# Altium schematic symbol library Connector-Library.SchLib: 14 symbols (part 2 of 2)
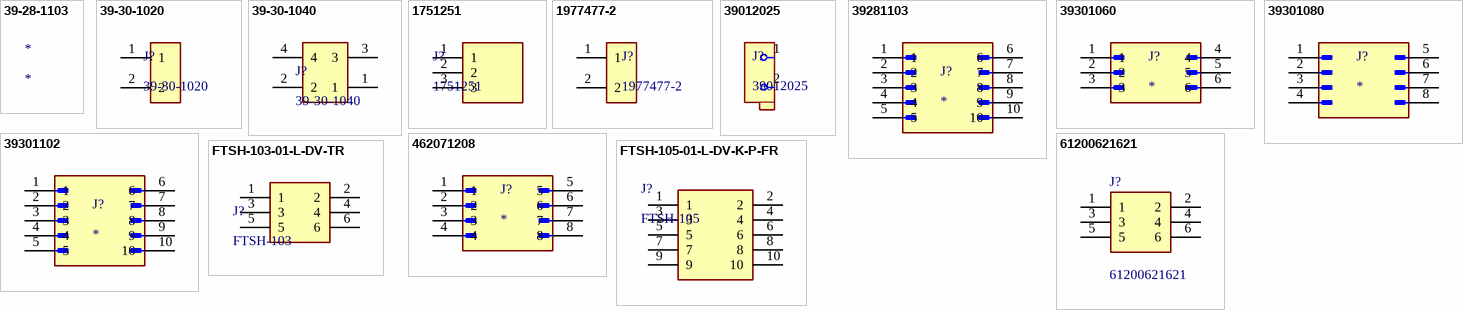
[diagram p1: symbols 39-28-1103 to FTSH-105-01-L-DV-K-P-FR]

## 39301080
designator J?
Connector Wire to Board Header 8 Position 4.2mm Solder Right Angle Thru-Hole Tray; Manufacturer Lifecycle Status: ACTIVE; MF: Molex; Approvals: CSA, TUV, UL; Connector Type: Power, Rectangular; Contact Resistance: 10mΩ; Current Rating: 8A; Gender: Male; Glow Wire Compliant: Non-compliant; Insulation Resistance: 1GΩ; Max Current Rating: 5A; Max Voltage Rating (DC): 250V; Number of Circuits: 6; Number of Contacts: 8; Plating Thickness: 2.54µm; Voltage Rating: 600V; SnapEDA_Link: https://www.snapeda.com/parts/39-30-1080/Molex/view-part/?ref=snap; Package: None; Value: *; MP: 39-30-1080; Check_prices: https://www.snapeda.com/parts/39-30-1080/Molex/view-part/?ref=eda; Supplier: RS; Supplier Part Number: 5109865P; Manufacturer: Molex; Manufacturer Part Number: 39-30-1080; RoHS: Compliant; Category: Headers and Wire Housings; Stock: 1025; China RoHS: Compliant; Color: Natural; Contact Gender: Male; Contact Material: Brass; Contact Plating: Tin; Country of Origin: US; Depth: 5.57mm; ELV: Compliant; Flammability Rating: UL94 V-2; Halogen Free: Low Halogen; Height: 9.9mm; Housing Material: Nylon; Lead Free: Lead Free; Lead Pitch: 4.2mm; Length: 15.65mm; Lifecycle Status: Production; Material: Nylon; Max Operating Temperature: 105°C; Min Operating Temperature: -40°C; Mounting Technology: PCB, Through Hole; Pins: 8; Number of Poles: 8; Number of Positions: 8; Number of Rows: 2; Orientation: Right Angle; Packaging: Bulk; Pitch: 4.2mm; Radiation Hardening: No; REACH SVHC: Yes; Row Spacing: 4.2mm; Schedule B: 8536694040, 8536694040|8536694040|8536694040|8536694040|8536694040; Termination: Solder; Voltage Rating (AC): 600V; Voltage Rating (DC): 600V; Working Voltage: 600V; ComponentLink1URL: https://datasheet.octopart.com:443/39-30-1080-Molex-datasheet-120074128.pdf?src-supplier=IHS; ComponentLink1Description: https://datasheet.octopart.com:443/39-30-1080-Molex-datasheet-120074128.pdf?src-supplier=IHS; ComponentLink2URL: https://datasheet.octopart.com:443/39-30-1080-Molex-datasheet-13785313.pdf?src-supplier=Sager+Electronics; ComponentLink2Description: https://datasheet.octopart.com:443/39-30-1080-Molex-datasheet-13785313.pdf?src-supplier=Sager+Electronics; ComponentLink3URL: https://sigma.octopart.com:443/15644801/technical_drawing/Molex-39-30-1080.pdf?src-supplier=Molex; ComponentLink3Description: https://sigma.octopart.com:443/15644801/technical_drawing/Molex-39-30-1080.pdf?src-supplier=Molex; ComponentLink4URL: https://datasheet.octopart.com:443/39-30-1080-Molex-datasheet-12555477.pdf?src-supplier=Molex; ComponentLink4Description: https://datasheet.octopart.com:443/39-30-1080-Molex-datasheet-12555477.pdf?src-supplier=Molex; ComponentLink5URL: https://datasheet.octopart.com:443/039301080-Molex-datasheet-8338717.pdf?src-supplier=Future+Electronics; ComponentLink5Description: https://datasheet.octopart.com:443/039301080-Molex-datasheet-8338717.pdf?src-supplier=Future+Electronics; ComponentLink6URL: https://datasheet.octopart.com:443/39301080-Molex-datasheet-137316104.pdf?src-supplier=Future+Electronics; ComponentLink6Description: https://datasheet.octopart.com:443/39301080-Molex-datasheet-137316104.pdf?src-supplier=Future+Electronics; ComponentLink7URL: https://datasheet.octopart.com:443/39-30-1080-Molex-datasheet-154749340.pdf?src-supplier=Master+Electronics; ComponentLink7Description: https://datasheet.octopart.com:443/39-30-1080-Molex-datasheet-154749340.pdf?src-supplier=Master+Electronics; ComponentLink8URL: https://datasheet.octopart.com:443/39-30-1080-Molex-datasheet-101582412.pdf?src-supplier=Farnell; ComponentLink8Description: https://datasheet.octopart.com:443/39-30-1080-Molex-datasheet-101582412.pdf?src-supplier=Farnell; ComponentLink9URL: https://datasheet.octopart.com:443/39-30-1080-Molex-datasheet-15687899.pdf?src-supplier=Farnell; ComponentLink9Description: https://datasheet.octopart.com:443/39-30-1080-Molex-datasheet-15687899.pdf?src-supplier=Farnell; ComponentLink10URL: https://datasheet.octopart.com:443/39-30-1080-Molex-datasheet-13550729.pdf?src-supplier=Farnell; ComponentLink10Description: https://datasheet.octopart.com:443/39-30-1080-Molex-datasheet-13550729.pdf?src-supplier=Farnell; ComponentLink11URL: https://datasheet.octopart.com:443/39-30-1080-Molex-datasheet-34223370.pdf?src-supplier=Electro+Sonic; ComponentLink11Description: https://datasheet.octopart.com:443/39-30-1080-Molex-datasheet-34223370.pdf?src-supplier=Electro+Sonic; ComponentLink12URL: https://datasheet.octopart.com:443/39-30-1080-Molex-datasheet-62104202.pdf?src-supplier=Electro+Sonic; ComponentLink12Description: https://datasheet.octopart.com:443/39-30-1080-Molex-datasheet-62104202.pdf?src-supplier=Electro+Sonic; ComponentLink13URL: https://datasheet.octopart.com:443/39-30-1080-Molex-datasheet-23709674.pdf?src-supplier=Electro+Sonic; ComponentLink13Description: https://datasheet.octopart.com:443/39-30-1080-Molex-datasheet-23709674.pdf?src-supplier=Electro+Sonic; ComponentLink14URL: https://datasheet.octopart.com:443/39-30-1080-Molex-datasheet-140183179.pdf?src-supplier=RS+(Formerly+Allied+Electronics); ComponentLink14Description: https://datasheet.octopart.com:443/39-30-1080-Molex-datasheet-140183179.pdf?src-supplier=RS+(Formerly+Allied+Electronics); ComponentLink15URL: https://datasheet.octopart.com:443/39-30-1080-Molex-datasheet-120148733.pdf?src-supplier=RS+(Formerly+Allied+Electronics); ComponentLink15Description: https://datasheet.octopart.com:443/39-30-1080-Molex-datasheet-120148733.pdf?src-supplier=RS+(Formerly+Allied+Electronics); ComponentLink16URL: https://datasheet.octopart.com:443/39-30-1080-Molex-datasheet-34442213.pdf?src-supplier=RS+(Formerly+Allied+Electronics); ComponentLink16Description: https://datasheet.octopart.com:443/39-30-1080-Molex-datasheet-34442213.pdf?src-supplier=RS+(Formerly+Allied+Electronics); ComponentLink17URL: https://datasheet.octopart.com:443/39-30-1080-Molex-datasheet-9783732.pdf?src-supplier=RS+(Formerly+Allied+Electronics); ComponentLink17Description: https://datasheet.octopart.com:443/39-30-1080-Molex-datasheet-9783732.pdf?src-supplier=RS+(Formerly+Allied+Electronics); ComponentLink18URL: https://datasheet.octopart.com:443/39-30-1080-Molex-datasheet-72655.pdf?src-supplier=RS+(Formerly+Allied+Electronics); ComponentLink18Description: https://datasheet.octopart.com:443/39-30-1080-Molex-datasheet-72655.pdf?src-supplier=RS+(Formerly+Allied+Electronics); ComponentLink19URL: https://datasheet.octopart.com:443/39-30-1080-Molex-datasheet-156091078.pdf?src-supplier=Jameco; ComponentLink19Description: https://datasheet.octopart.com:443/39-30-1080-Molex-datasheet-156091078.pdf?src-supplier=Jameco; ComponentLink20URL: https://datasheet.octopart.com:443/39301080-Molex-datasheet-8197183.pdf?src-supplier=Jameco; ComponentLink20Description: https://datasheet.octopart.com:443/39301080-Molex-datasheet-8197183.pdf?src-supplier=Jameco; ComponentLink21URL: https://datasheet.octopart.com:443/39-30-1080-Molex-datasheet-7269772.pdf?src-supplier=Jameco; ComponentLink21Description: https://datasheet.octopart.com:443/39-30-1080-Molex-datasheet-7269772.pdf?src-supplier=Jameco; ComponentLink22URL: https://datasheet.octopart.com:443/39-30-1080-Molex-datasheet-33002877.pdf?src-supplier=Newark; ComponentLink22Description: https://datasheet.octopart.com:443/39-30-1080-Molex-datasheet-33002877.pdf?src-supplier=Newark; ComponentLink23URL: https://datasheet.octopart.com:443/39-30-1080-Molex-datasheet-21207490.pdf?src-supplier=Newark; ComponentLink23Description: https://datasheet.octopart.com:443/39-30-1080-Molex-datasheet-21207490.pdf?src-supplier=Newark; ComponentLink24URL: https://datasheet.octopart.com:443/39-30-1080-Molex-datasheet-2405.pdf?src-supplier=Newark; ComponentLink24Description: https://datasheet.octopart.com:443/39-30-1080-Molex-datasheet-2405.pdf?src-supplier=Newark; ComponentLink25URL: https://datasheet.octopart.com:443/39-30-1080-Molex-datasheet-21395541.pdf?src-supplier=TME; ComponentLink25Description: https://datasheet.octopart.com:443/39-30-1080-Molex-datasheet-21395541.pdf?src-supplier=TME; ComponentLink26URL: https://datasheet.octopart.com:443/39-30-1080-Molex-datasheet-8361750.pdf?src-supplier=Verical; ComponentLink26Description: https://datasheet.octopart.com:443/39-30-1080-Molex-datasheet-8361750.pdf?src-supplier=Verical; ComponentLink27URL: https://datasheet.octopart.com:443/39-30-1080-Molex-datasheet-145504.pdf?src-supplier=DigiKey; ComponentLink27Description: https://datasheet.octopart.com:443/39-30-1080-Molex-datasheet-145504.pdf?src-supplier=DigiKey; ComponentLink28URL: http://sigma.octopart.com:80/15645381/rohs_certificate/Molex-39-30-1080.pdf?src-supplier=Compliance+Statements; ComponentLink28Description: http://sigma.octopart.com:80/15645381/rohs_certificate/Molex-39-30-1080.pdf?src-supplier=Compliance+Statements; ComponentLink29URL: http://sigma.octopart.com:80/conflict_mineral_statement/Molex-company-72.pdf?src-supplier=Compliance+Statements; ComponentLink29Description: http://sigma.octopart.com:80/conflict_mineral_statement/Molex-company-72.pdf?src-supplier=Compliance+Statements; ComponentLink30URL: http://sigma.octopart.com:80/rohs_statement/Molex-company-73.pdf?src-supplier=Compliance+Statements; ComponentLink30Description: http://sigma.octopart.com:80/rohs_statement/Molex-company-73.pdf?src-supplier=Compliance+Statements; ComponentLink31URL: http://sigma.octopart.com:80/reach_statement/Molex-company-74.pdf?src-supplier=Compliance+Statements; ComponentLink31Description: http://sigma.octopart.com:80/reach_statement/Molex-company-74.pdf?src-supplier=Compliance+Statements
footprint 39301080
pins: 1, 2, 3, 4, 5, 6, 7, 8

## 39301102
designator J?
Mini-Fit Jr. Header, Dual Row, Right Angle, with Snap-in Plastic Peg PCB Lock, 10 Circuits, PA Polyamide Nylon 6/6 94V-0, Tin (Sn) Plating; MP: 39301102; Value: *; Price: None; Availability: Unavailable; Package: None
footprint 39301102
pins: 1, 2, 3, 4, 5, 6, 7, 8, 9, 10

## 462071208
designator J?
Mini-Fit Jr 46207 ROHS3Compliant Tin Solder Connector Header 100.0muin 2.54mum; Manufacturer: Molex; Manufacturer Part Number: 46207-1208; Manufacturer Lifecycle Status: ACTIVE; MP: 462071208; Current Rating: 9A; Dielectric Material: Polyethylene; Number of Circuits: 8; Pitch: 4.2mm; Voltage Rating: 600V; Package: None; Value: *; Availability: Unavailable; Price: None; Supplier: Farnell; Supplier Part Number: 3536728; RoHS: Compliant; Category: Headers and Wire Housings; Stock: 3316; China RoHS: Compliant; Color: Black; Contact Gender: Female; Contact Material: Brass; Contact Plating: Tin; Country of Origin: MX; Glow Wire Compliant: Compliant; Halogen Free: Low Halogen; Housing Material: Thermoplastic; Lifecycle Status: Production; Max Operating Temperature: 105°C; Min Operating Temperature: -40°C; Pins: 8; Number of Positions: 8; Number of Rows: 2; Orientation: Vertical; REACH SVHC: Yes; Row Spacing: 4.2mm; Termination: Through Hole; ComponentLink1URL: https://datasheet.octopart.com:443/462071208-Molex-datasheet-180773589.pdf?src-supplier=IHS; ComponentLink1Description: https://datasheet.octopart.com:443/462071208-Molex-datasheet-180773589.pdf?src-supplier=IHS; ComponentLink2URL: https://datasheet.octopart.com:443/462071208-Molex-datasheet-16395072.pdf?src-supplier=Molex; ComponentLink2Description: https://datasheet.octopart.com:443/462071208-Molex-datasheet-16395072.pdf?src-supplier=Molex; ComponentLink3URL: https://datasheet.octopart.com:443/46207-1208-Molex-datasheet-12571497.pdf?src-supplier=Molex; ComponentLink3Description: https://datasheet.octopart.com:443/46207-1208-Molex-datasheet-12571497.pdf?src-supplier=Molex; ComponentLink4URL: https://datasheet.octopart.com:443/46207-1208-Molex-datasheet-175423246.pdf?src-supplier=Newark; ComponentLink4Description: https://datasheet.octopart.com:443/46207-1208-Molex-datasheet-175423246.pdf?src-supplier=Newark; ComponentLink5URL: https://datasheet.octopart.com:443/0462071208-Molex-datasheet-11743555.pdf?src-supplier=Arrow+Electronics; ComponentLink5Description: https://datasheet.octopart.com:443/0462071208-Molex-datasheet-11743555.pdf?src-supplier=Arrow+Electronics; ComponentLink6URL: http://sigma.octopart.com:80/16395073/rohs_statement/Molex-462071208.pdf?src-supplier=Compliance+Statements; ComponentLink6Description: http://sigma.octopart.com:80/16395073/rohs_statement/Molex-462071208.pdf?src-supplier=Compliance+Statements; ComponentLink7URL: http://sigma.octopart.com:80/reach_statement/Molex-company-74.pdf?src-supplier=Compliance+Statements; ComponentLink7Description: http://sigma.octopart.com:80/reach_statement/Molex-company-74.pdf?src-supplier=Compliance+Statements; ComponentLink8URL: http://sigma.octopart.com:80/rohs_statement/Molex-company-73.pdf?src-supplier=Compliance+Statements; ComponentLink8Description: http://sigma.octopart.com:80/rohs_statement/Molex-company-73.pdf?src-supplier=Compliance+Statements; ComponentLink9URL: http://sigma.octopart.com:80/conflict_mineral_statement/Molex-company-72.pdf?src-supplier=Compliance+Statements; ComponentLink9Description: http://sigma.octopart.com:80/conflict_mineral_statement/Molex-company-72.pdf?src-supplier=Compliance+Statements
footprint 462071208
pins: 1, 2, 3, 4, 5, 6, 7, 8

## 61200621621
designator J?
Conn Shrouded Header (4 Sides) M 6 POS 2.54mm Solder ST Top Entry Thru-Hole Tray; Manufacturer_Name: Wurth Elektronik; Geometry.Height: 9.1mm; Connector Type: Male Pin; Contact Resistance: 20mΩ; Current Rating: 3A; Gender: Male; Insulation Resistance: 1GΩ; Number of Contacts: 6; Operating Supply Voltage: 250V; Manufacturer_Part_Number: 61200621621; Mouser Part Number: 710-61200621621; Mouser Price/Stock: https://www.mouser.co.uk/ProductDetail/Wurth-Elektronik/61200621621?qs=PhR8RmCirEbjX8n1RKw4Jw%3D%3D; Arrow Part Number: *; Arrow Price/Stock: *; Datasheet Link: https://katalog.we-online.de/em/datasheet/6120xx21621.pdf; Supplier: RS; Supplier Part Number: 8236430; Manufacturer: Wurth Elektronik; Manufacturer Part Number: 61200621621; RoHS: Compliant; Category: Headers and Wire Housings; Stock: 450; Color: Black; Contact Material: Copper; Contact Plating: Gold; Insulation Material: PBT; Lead Pitch: 2.54mm; Length: 15.28mm; Max Operating Temperature: 105°C; Min Operating Temperature: -40°C; Mounting Technology: Through Hole; Pins: 6; Number of Positions: 6; Number of Rows: 2; Orientation: Vertical; Pitch: 2.54mm; Row Spacing: 2.54mm; Termination: Solder; ComponentLink1URL: https://datasheet.octopart.com:443/61200621621-Wurth-Elektronik-datasheet-168479915.pdf?src-supplier=Newark; ComponentLink1Description: https://datasheet.octopart.com:443/61200621621-Wurth-Elektronik-datasheet-168479915.pdf?src-supplier=Newark; ComponentLink2URL: https://datasheet.octopart.com:443/61200621621-W%C3%BCrth-Elektronik-datasheet-5367532.pdf?src-supplier=Newark; ComponentLink2Description: https://datasheet.octopart.com:443/61200621621-W%C3%BCrth-Elektronik-datasheet-5367532.pdf?src-supplier=Newark; ComponentLink3URL: https://datasheet.octopart.com:443/61200621621-W%C3%BCrth-Elektronik-datasheet-62127819.pdf?src-supplier=Upverter; ComponentLink3Description: https://datasheet.octopart.com:443/61200621621-W%C3%BCrth-Elektronik-datasheet-62127819.pdf?src-supplier=Upverter; ComponentLink4URL: https://datasheet.octopart.com:443/61200621621-W%C3%BCrth-Elektronik-datasheet-111087935.pdf?src-supplier=Wurth+Elektronik; ComponentLink4Description: https://datasheet.octopart.com:443/61200621621-W%C3%BCrth-Elektronik-datasheet-111087935.pdf?src-supplier=Wurth+Elektronik; ComponentLink5URL: https://datasheet.octopart.com:443/61200621621-W%C3%BCrth-Elektronik-datasheet-149523874.pdf?src-supplier=Farnell; ComponentLink5Description: https://datasheet.octopart.com:443/61200621621-W%C3%BCrth-Elektronik-datasheet-149523874.pdf?src-supplier=Farnell
footprint 61200621621
pins: 1, 2, 3, 4, 5, 6

## FTSH-103-01-L-DV-TR
designator J?, comment FTSH-103
Pin Header, Board-to-Board, Wire-to-Board, 1.27 mm, 2 Rows, 6 Contacts, Surface Mount, FTSH; Manufacturer: Samtec; Manufacturer Part Number: FTSH-103-01-L-DV-TR; Manufacturer Lifecycle Status: PRODUCTION; Current Rating: 3.4A; Gender: Male; Max Current Rating: 1.75A; Number of Contacts: 6; Pitch: 1.27mm; Supplier: RS; Supplier Part Number: 1802874; RoHS: Compliant; Category: Headers and Wire Housings; Stock: 1; Contact Material: Gold, Nickel; Contact Plating: Gold; Depth: 3.43mm; Height: 6.23mm; Housing Color: Black; Housing Material: Polymer; Lead Free: Lead Free; Length: 3.81mm; Lifecycle Status: Production; Max Operating Temperature: 125°C; Min Operating Temperature: -55°C; Pins: 6; Number of Rows: 2; Packaging: Tape and Reel; Radiation Hardening: No; REACH SVHC: No; Termination: Solder; ComponentLink1URL: https://sigma.octopart.com:443/152766371/technical_drawing/Samtec-FTSH-103-01-L-DV-TR.pdf?src-supplier=Upverter; ComponentLink1Description: https://sigma.octopart.com:443/152766371/technical_drawing/Samtec-FTSH-103-01-L-DV-TR.pdf?src-supplier=Upverter; ComponentLink2URL: https://sigma.octopart.com:443/97029548/technical_drawing/Samtec-FTSH-103-01-L-DV-TR.pdf?src-supplier=Electro+Sonic; ComponentLink2Description: https://sigma.octopart.com:443/97029548/technical_drawing/Samtec-FTSH-103-01-L-DV-TR.pdf?src-supplier=Electro+Sonic; ComponentLink3URL: https://datasheet.octopart.com:443/FTSH-103-01-L-DV-TR-Samtec-datasheet-97029545.pdf?src-supplier=Samtec; ComponentLink3Description: https://datasheet.octopart.com:443/FTSH-103-01-L-DV-TR-Samtec-datasheet-97029545.pdf?src-supplier=Samtec; ComponentLink4URL: https://datasheet.octopart.com:443/FTSH-103-01-L-DV-TR-Samtec-datasheet-140825048.pdf?src-supplier=Master+Electronics; ComponentLink4Description: https://datasheet.octopart.com:443/FTSH-103-01-L-DV-TR-Samtec-datasheet-140825048.pdf?src-supplier=Master+Electronics; ComponentLink5URL: https://datasheet.octopart.com:443/FTSH-103-01-L-DV-TR-Samtec-datasheet-137003348.pdf?src-supplier=Master+Electronics; ComponentLink5Description: https://datasheet.octopart.com:443/FTSH-103-01-L-DV-TR-Samtec-datasheet-137003348.pdf?src-supplier=Master+Electronics; ComponentLink6URL: https://datasheet.octopart.com:443/FTSH-103-01-L-DV-TR-Samtec-datasheet-62087996.pdf?src-supplier=element14+APAC; ComponentLink6Description: https://datasheet.octopart.com:443/FTSH-103-01-L-DV-TR-Samtec-datasheet-62087996.pdf?src-supplier=element14+APAC; ComponentLink7URL: https://datasheet.octopart.com:443/FTSH-103-01-L-DV-TR-Samtec-datasheet-86818370.pdf?src-supplier=Sager+Electronics; ComponentLink7Description: https://datasheet.octopart.com:443/FTSH-103-01-L-DV-TR-Samtec-datasheet-86818370.pdf?src-supplier=Sager+Electronics; ComponentLink8URL: https://datasheet.octopart.com:443/FTSH-103-01-L-DV-TR-Samtec-datasheet-151470459.pdf?src-supplier=Sager+Electronics; ComponentLink8Description: https://datasheet.octopart.com:443/FTSH-103-01-L-DV-TR-Samtec-datasheet-151470459.pdf?src-supplier=Sager+Electronics; ComponentLink9URL: https://datasheet.octopart.com:443/FTSH-103-01-L-DV-TR-Samtec-datasheet-151470458.pdf?src-supplier=Sager+Electronics; ComponentLink9Description: https://datasheet.octopart.com:443/FTSH-103-01-L-DV-TR-Samtec-datasheet-151470458.pdf?src-supplier=Sager+Electronics; ComponentLink10URL: https://datasheet.octopart.com:443/FTSH-103-01-L-DV-TR-Samtec-datasheet-33007713.pdf?src-supplier=Farnell; ComponentLink10Description: https://datasheet.octopart.com:443/FTSH-103-01-L-DV-TR-Samtec-datasheet-33007713.pdf?src-supplier=Farnell; ComponentLink11URL: https://datasheet.octopart.com:443/FTSH-103-01-L-DV-TR-Samtec-datasheet-183475175.pdf?src-supplier=JRH+Electronics; ComponentLink11Description: https://datasheet.octopart.com:443/FTSH-103-01-L-DV-TR-Samtec-datasheet-183475175.pdf?src-supplier=JRH+Electronics; ComponentLink12URL: https://datasheet.octopart.com:443/FTSH-103-01-L-DV-TR-Samtec-datasheet-176663386.pdf?src-supplier=Toby+Electronics; ComponentLink12Description: https://datasheet.octopart.com:443/FTSH-103-01-L-DV-TR-Samtec-datasheet-176663386.pdf?src-supplier=Toby+Electronics; ComponentLink13URL: https://datasheet.octopart.com:443/FTSH-103-01-L-DV-TR-Samtec-datasheet-133497664.pdf?src-supplier=Toby+Electronics; ComponentLink13Description: https://datasheet.octopart.com:443/FTSH-103-01-L-DV-TR-Samtec-datasheet-133497664.pdf?src-supplier=Toby+Electronics; ComponentLink14URL: https://datasheet.octopart.com:443/FTSH-103-01-L-DV-TR-Samtec-datasheet-116535196.pdf?src-supplier=Toby+Electronics; ComponentLink14Description: https://datasheet.octopart.com:443/FTSH-103-01-L-DV-TR-Samtec-datasheet-116535196.pdf?src-supplier=Toby+Electronics; ComponentLink15URL: https://datasheet.octopart.com:443/FTSH-103-01-L-DV-TR-Samtec-datasheet-138897704.pdf?src-supplier=HQonline; ComponentLink15Description: https://datasheet.octopart.com:443/FTSH-103-01-L-DV-TR-Samtec-datasheet-138897704.pdf?src-supplier=HQonline; ComponentLink16URL: https://datasheet.octopart.com:443/FTSH-103-01-L-DV-TR-Samtec-datasheet-11553404.pdf?src-supplier=Arrow+Electronics; ComponentLink16Description: https://datasheet.octopart.com:443/FTSH-103-01-L-DV-TR-Samtec-datasheet-11553404.pdf?src-supplier=Arrow+Electronics; Supplier 1: RS; Supplier Part Number 1: 1802874; Supplier 2: RS; Supplier Part Number 2: 1976473
footprint FP-FTSH-103-01-L-DV-TR-MFG
pins: 1, 2, 3, 4, 5, 6

## FTSH-105-01-L-DV-K-P-FR
designator J?, comment FTSH-105
Pin Header, Board-to-Board, 1.27 mm, 2 Rows, 10 Contacts, Surface Mount Straight, FTSH Series; Manufacturer_Name: SAMTEC; Manufacturer_Part_Number: FTSH-105-01-L-DV-K-P-FR; Manufacturer Lifecycle Status: PRODUCTION; Datasheet Link: https://suddendocs.samtec.com/prints/ftsh-1xx-xx-xxx-dv-xxx-xxx-x-xx-mkt.pdf; Height: 6.25mm; Mouser Part Number: 200-FTSH10501LDVKPFR; Mouser Price/Stock: https://www.mouser.co.uk/ProductDetail/Samtec/FTSH-105-01-L-DV-K-P-FR?qs=T3oQrply3y9mF8HUsdNXrg%3D%3D; Arrow Part Number: FTSH-105-01-L-DV-K-P-FR; Arrow Price/Stock: https://www.arrow.com/en/products/ftsh-105-01-l-dv-k-p-fr/samtec?utm_currency=USD&region=europe; Supplier: Farnell; Supplier Part Number: FTSH-105-01-L-DV-K-P-FR; Manufacturer: Samtec; Manufacturer Part Number: FTSH-105-01-L-DV-K-P-FR; RoHS: Compliant; Category: Board to Board Connectors; Stock: 500; Lifecycle Status: Production; Pins: 10; Orientation: Vertical; ComponentLink1URL: https://datasheet.octopart.com:443/FTSH-105-01-L-DV-K-P-FR-Samtec-datasheet-140825048.pdf?src-supplier=Master+Electronics; ComponentLink1Description: https://datasheet.octopart.com:443/FTSH-105-01-L-DV-K-P-FR-Samtec-datasheet-140825048.pdf?src-supplier=Master+Electronics; ComponentLink2URL: https://sigma.octopart.com:443/140871554/technical_drawing/Samtec-FTSH-105-01-L-DV-K-P-FR.pdf?src-supplier=Samtec; ComponentLink2Description: https://sigma.octopart.com:443/140871554/technical_drawing/Samtec-FTSH-105-01-L-DV-K-P-FR.pdf?src-supplier=Samtec; ComponentLink3URL: https://datasheet.octopart.com:443/FTSH-105-01-L-DV-K-P-FR-Samtec-datasheet-8459893.pdf?src-supplier=element14+APAC; ComponentLink3Description: https://datasheet.octopart.com:443/FTSH-105-01-L-DV-K-P-FR-Samtec-datasheet-8459893.pdf?src-supplier=element14+APAC; ComponentLink4URL: https://datasheet.octopart.com:443/FTSH-105-01-L-DV-K-P-FR-Samtec-datasheet-5313432.pdf?src-supplier=element14+APAC; ComponentLink4Description: https://datasheet.octopart.com:443/FTSH-105-01-L-DV-K-P-FR-Samtec-datasheet-5313432.pdf?src-supplier=element14+APAC; ComponentLink5URL: https://datasheet.octopart.com:443/FTSH-105-01-L-DV-K-P-FR-Samtec-datasheet-166224474.pdf?src-supplier=Sager+Electronics; ComponentLink5Description: https://datasheet.octopart.com:443/FTSH-105-01-L-DV-K-P-FR-Samtec-datasheet-166224474.pdf?src-supplier=Sager+Electronics; ComponentLink6URL: https://datasheet.octopart.com:443/FTSH-105-01-L-DV-K-P-FR-Samtec-datasheet-151470458.pdf?src-supplier=Sager+Electronics; ComponentLink6Description: https://datasheet.octopart.com:443/FTSH-105-01-L-DV-K-P-FR-Samtec-datasheet-151470458.pdf?src-supplier=Sager+Electronics; ComponentLink7URL: https://datasheet.octopart.com:443/FTSH-105-01-L-DV-K-P-FR-Samtec-datasheet-150877546.pdf?src-supplier=Sager+Electronics; ComponentLink7Description: https://datasheet.octopart.com:443/FTSH-105-01-L-DV-K-P-FR-Samtec-datasheet-150877546.pdf?src-supplier=Sager+Electronics; ComponentLink8URL: https://datasheet.octopart.com:443/FTSH-105-01-L-DV-K-P-FR-Samtec-datasheet-137321594.pdf?src-supplier=Sager+Electronics; ComponentLink8Description: https://datasheet.octopart.com:443/FTSH-105-01-L-DV-K-P-FR-Samtec-datasheet-137321594.pdf?src-supplier=Sager+Electronics; ComponentLink9URL: https://datasheet.octopart.com:443/FTSH-105-01-L-DV-K-P-FR-Samtec-datasheet-151470459.pdf?src-supplier=Farnell; ComponentLink9Description: https://datasheet.octopart.com:443/FTSH-105-01-L-DV-K-P-FR-Samtec-datasheet-151470459.pdf?src-supplier=Farnell; Supplier 1: Farnell; Supplier Part Number 1: FTSH-105-01-L-DV-K-P-FR
footprint FTSH10501LDVKPFR
pins: 1, 2, 3, 4, 5, 6, 7, 8, 9, 10